# Altium footprint library Footprints.PcbLib: 4 footprints
Each footprint in its own frame and in the unit in brackets; x right, y up, seen from the top. Pads: shape width x height; smd on the part's side, far side on the other; paste and mask are expansions set on the pad; w line width, h text height; cw(c..) or ccw(c..) is an arc to the next point about the centre after c.
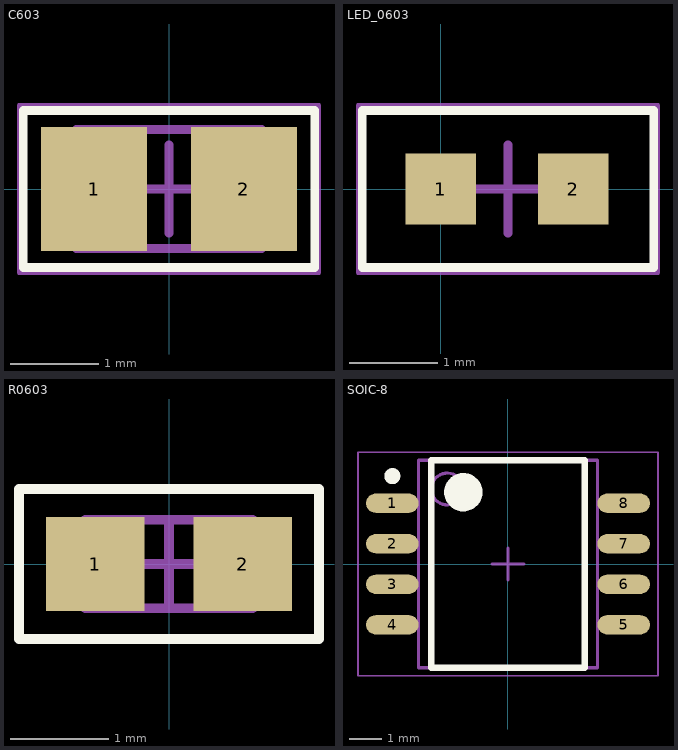
[diagram p0: the footprints below, top view; thin cyan lines are the x and y axes]

## C603 [mm] "Chip Capacitor, 2-Leads, Body 2.00x1.25mm, IPC Medium Density"
height 1.35
pads (2):
  rect 1.2x1.4 smd: 1(-0.85,0) 2(0.85,0)
Top Overlay:
  lines w0.1: -1.651,-0.889 1.651,-0.889 1.651,0.889 -1.651,0.889 -1.651,-0.889
Mechanical 13:
  lines w0.1: -1.05,-0.675 1.05,-0.675 1.05,0.675 -1.05,0.675 -1.05,-0.675
Mechanical 15:
  lines w0.05: -1.7,-0.95 1.7,-0.95 1.7,0.95 -1.7,0.95 -1.7,-0.95
  lines w0.1: -0.5,0 0.5,0 ; 0,-0.5 0,0.5
3D body: height 1.35, standoff 0, extent 0.6,-0.675 1.05,0.675
3D body: height 1.35, standoff 0, extent -1.05,-0.675 -0.6,0.675
3D body: height 1.35, standoff 0, extent -0.6,-0.675 0.6,0.675

## LED_0603 [mm]
pads (2):
  rect 0.8x0.8 smd: 1(0,0) 2(1.5,0)
Top Overlay:
  lines w0.1: -0.889,-0.889 -0.889,0.889 2.413,0.889 2.413,-0.889 -0.889,-0.889
Mechanical 15:
  lines w0.05: -0.938,-0.95 -0.938,0.95 2.462,0.95 2.462,-0.95 -0.938,-0.95
  lines w0.1: 0.262,0 1.262,0 ; 0.762,-0.5 0.762,0.5

## R0603 [mm] "Chip Capacitor, 2-Leads, Body 1.60x0.80mm, IPC Medium Density"
height 0.55
pads (2):
  rect 1x0.95 smd: 1(-0.75,0) 2(0.75,0)
Top Overlay:
  lines w0.1: -1.524,-0.762 1.524,-0.762 1.524,0.762 -1.524,0.762 -1.524,-0.762
Mechanical 13:
  lines w0.1: -0.85,-0.45 0.85,-0.45 0.85,0.45 -0.85,0.45 -0.85,-0.45
Mechanical 15:
  lines w0.05: -1.5,-0.75 1.5,-0.75 1.5,0.75 -1.5,0.75 -1.5,-0.75
  lines w0.1: -0.45,0 0.45,0 ; 0,-0.45 0,0.45
3D body: height 0.55, standoff 0, extent 0.55,-0.45 0.85,0.45
3D body: height 0.55, standoff 0, extent -0.85,-0.45 -0.55,0.45
3D body: height 0.55, standoff 0, extent -0.55,-0.45 0.55,0.45

## SOIC-8 [mm] "SOIC, 8-Leads, Body 6.20x5.30mm, Pitch 1.27mm, IPC Medium Density"
height 1.75
pads (8):
  oval 1.65x0.6 smd: 1(-3.625,1.905) 2(-3.625,0.635) 3(-3.625,-0.635) 4(-3.625,-1.905) 5(3.625,-1.905) 6(3.625,-0.635) 7(3.625,0.635) 8(3.625,1.905)
Top Overlay:
  circle w0.25: c-3.625,2.755 r0.125
  circle w0.6: c-1.4,2.25 r0.3
  lines w0.2: -2.4,-3.25 -2.4,3.25 2.4,3.25 2.4,-3.25 -2.4,-3.25
Mechanical 13:
  circle w0.1: c-1.9,2.35 r0.5
  lines w0.1: -2.8,-3.25 -2.8,3.25 2.8,3.25 2.8,-3.25 -2.8,-3.25
Mechanical 15:
  lines w0.05: -4.7,-3.5 -4.7,3.5 4.7,3.5 4.7,-3.5 -4.7,-3.5
  lines w0.1: -0.5,0 0.5,0 ; 0,-0.5 0,0.5
3D body: height 1.75, standoff 0.1, extent -2.8,-3.25 2.8,3.25